# Altium schematic symbol library phone_cover_parts.SchLib: 3 symbols
Pins are listed as number, name and electrical type; pins without a type are passive.

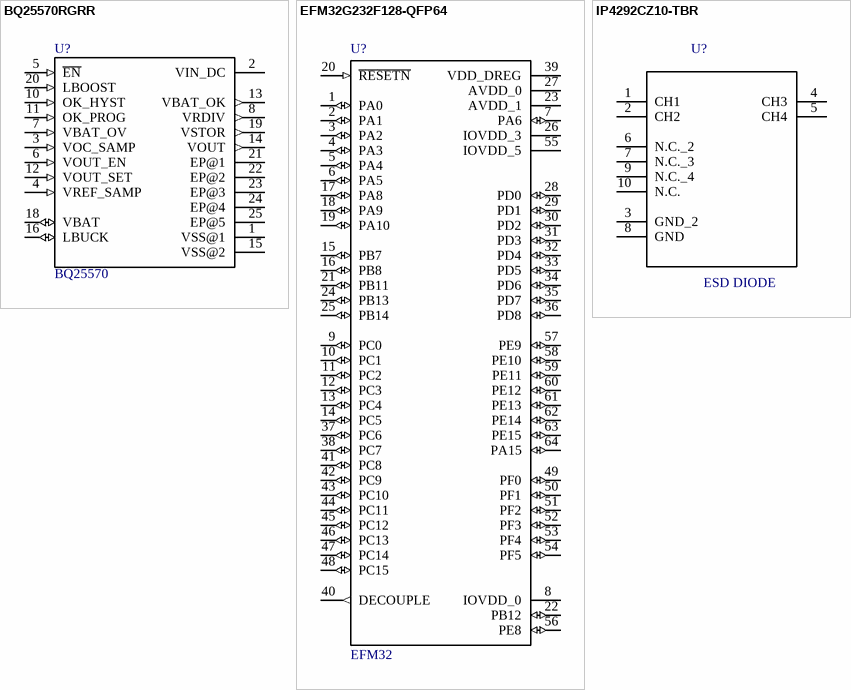
[diagram p0: symbols BQ25570RGRR to IP4292CZ10-TBR]

## BQ25570RGRR
designator U?, comment BQ25570
IC ENERGY HARV CTRLR BATT 20VQFN; Manufacturer: Texas Instruments; Manufacturer Part Number: BQ25570RGRR; Digi-Key Part Number: 296-39934-1-ND; DatasheetLink: http://www.ti.com/lit/ds/symlink/bq25570.pdf
footprint QFN50P350X350X100-21N
pins: 1 VSS@1 (power), 2 VIN_DC (power), 3 VOC_SAMP (in), 4 VREF_SAMP (in), 5 ~{EN} (in), 6 VOUT_EN (in), 7 VBAT_OV (in), 8 VRDIV (out), 10 OK_HYST (in), 11 OK_PROG (in), 12 VOUT_SET (in), 13 VBAT_OK (out), 14 VOUT (out), 15 VSS@2 (power), 16 LBUCK (io), 18 VBAT (io), 19 VSTOR (out), 20 LBOOST (in), 21 EP@1 (power), 22 EP@2 (power), 23 EP@3 (power), 24 EP@4 (power), 25 EP@5 (power)

## EFM32G232F128-QFP64
designator U?, comment EFM32
IC MCU 32BIT 64KB FLASH 64QFN; Manufacturer: Silicon Labs; Manufacturer Part Number: EFM32LG840F64G-E-QFN64R; Digi-Key Part Number: 336-4841-1-ND
footprint QFP50P1200X1200X120-64N
footprint QFN-64
pins: 1 PA0 (io), 2 PA1 (io), 3 PA2 (io), 4 PA3 (io), 5 PA4 (io), 6 PA5 (io), 7 PA6 (io), 8 IOVDD_0 (power), 9 PC0 (io), 10 PC1 (io), 11 PC2 (io), 12 PC3 (io), 13 PC4 (io), 14 PC5 (io), 15 PB7 (io), 16 PB8 (io), 17 PA8 (io), 18 PA9 (io), 19 PA10 (io), 20 ~{RESETN} (in), 21 PB11 (io), 22 PB12 (io), 23 AVDD_1 (power), 24 PB13 (io), 25 PB14 (io), 26 IOVDD_3 (power), 27 AVDD_0 (power), 28 PD0 (io), 29 PD1 (io), 30 PD2 (io), 31 PD3 (io), 32 PD4 (io), 33 PD5 (io), 34 PD6 (io), 35 PD7 (io), 36 PD8 (io), 37 PC6 (io), 38 PC7 (io), 39 VDD_DREG (power), 40 DECOUPLE (out), 41 PC8 (io), 42 PC9 (io), 43 PC10 (io), 44 PC11 (io), 45 PC12 (io), 46 PC13 (io), 47 PC14 (io), 48 PC15 (io), 49 PF0 (io), 50 PF1 (io), 51 PF2 (io), 52 PF3 (io), 53 PF4 (io), 54 PF5 (io), 55 IOVDD_5 (power), 56 PE8 (io), 57 PE9 (io), 58 PE10 (io), 59 PE11 (io), 60 PE12 (io), 61 PE13 (io), 62 PE14 (io), 63 PE15 (io), 64 PA15 (io)

## IP4292CZ10-TBR
designator U?, comment ESD DIODE
TVS DIODE DFN2510A-10; Manufacturer: Nexperia USA Inc.; Manufacturer Part Number: PHDMI2FR4Z; Digi-Key Part Number: 1727-7821-1-ND; DatasheetLink: https://assets.nexperia.com/documents/data-sheet/PHDMI2FR4.pdf
footprint SON50P100X255X50-10N
pins: 1 CH1, 2 CH2, 3 GND_2, 4 CH3, 5 CH4, 6 N.C._2, 7 N.C._3, 8 GND, 9 N.C._4, 10 N.C.